# Altium footprint library ESP32-WROOM-32E-N4.PcbLib: 1 footprints
Each footprint in its own frame and in the unit in brackets; x right, y up, seen from the top. Pads: shape width x height; smd on the part's side, far side on the other; paste and mask are expansions set on the pad; w line width, h text height; cw(c..) or ccw(c..) is an arc to the next point about the centre after c.
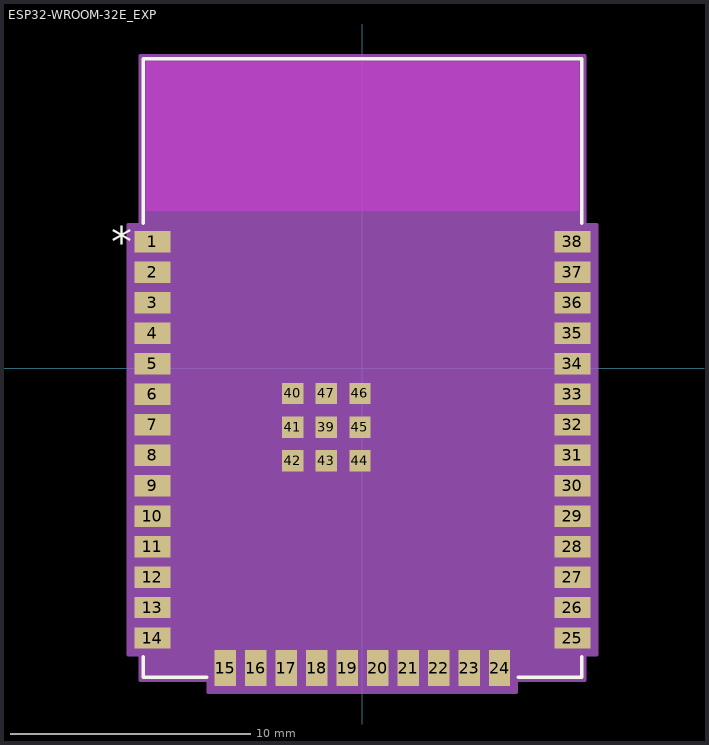
[diagram p0: the footprint, top view; thin cyan lines are the x and y axes]

## ESP32­WROOM­32E_EXP [mil]
pads (47):
  rect 59x35 smd paste+0 mask+0: 1(-344.5,207.1) 2(-344.5,157.1) 3(-344.5,107.1) 4(-344.5,57.1) 5(-344.5,7.1) 6(-344.5,-42.9) 7(-344.5,-92.9) 8(-344.5,-142.9) 9(-344.5,-192.9) 10(-344.5,-242.9) 11(-344.5,-292.9) 12(-344.5,-342.9) 13(-344.5,-392.9) 14(-344.5,-442.9) 25(344.5,-442.9) 26(344.5,-392.9) 27(344.5,-342.9) 28(344.5,-292.9) 29(344.5,-242.9) 30(344.5,-192.9) 31(344.5,-142.9) 32(344.5,-92.9) 33(344.5,-42.9) 34(344.5,7.1) 35(344.5,57.1) 36(344.5,107.1) 37(344.5,157.1) 38(344.5,207.1)
  rect 35x59 smd paste+0 mask+0: 15(-225,-492.15) 16(-175,-492.15) 17(-125,-492.15) 18(-75,-492.15) 19(-25,-492.15) 20(25,-492.15) 21(75,-492.15) 22(125,-492.15) 23(175,-492.15) 24(225,-492.15)
  rect 35x35 smd paste+0 mask+0: 39(-59.1,-96.9) 40(-114.2,-41.8) 41(-114.2,-96.9) 42(-114.2,-152) 43(-59.1,-152) 44(-4,-152) 45(-4,-96.9) 46(-4,-41.8) 47(-59.1,-41.8)
Top Overlay:
  lines w6: -359.5,-473.5 -359.5,-507 -255.6,-507 ; -359.5,237.7 -359.5,507 359.5,507 359.5,237.7 ; 255.6,-507 359.5,-507 359.5,-473.5
  text "*" at -411.5,182.1 h50
  text ".Designator" at -137.5,-25 h50
Keep-Out Layer:
  region: 354.5,258 354.5,502 -354.5,502 -354.5,258
Mechanical 13:
  lines w1: -354.5,-502 354.5,-502 354.5,502 -354.5,502 -354.5,-502
  text ".Designator" at -137.5,-25 h50
  text "*" at -302.5,182.1 h50
Mechanical 15:
  region: -364.5,-512 -252.5,-512 -252.5,-531.65 252.5,-531.65 252.5,-512 364.5,-512 364.5,-470.4 384,-470.4 384,234.6 364.5,234.6 364.5,512 -364.5,512 -364.5,234.6 -384,234.6 -384,-470.4 -364.5,-470.4
  lines w6: -384,-470.4 -384,234.6 -364.5,234.6 -364.5,512 364.5,512 364.5,234.6 384,234.6 384,-470.4 364.5,-470.4 364.5,-512 252.5,-512 252.5,-531.65 -252.5,-531.65 -252.5,-512 -364.5,-512 -364.5,-470.4 -384,-470.4